# Altium footprint library lem.PCBLIB: 3 footprints
Each footprint in its own frame and in the unit in brackets; x right, y up, seen from the top. Pads: shape width x height; smd on the part's side, far side on the other; paste and mask are expansions set on the pad; w line width, h text height; cw(c..) or ccw(c..) is an arc to the next point about the centre after c.
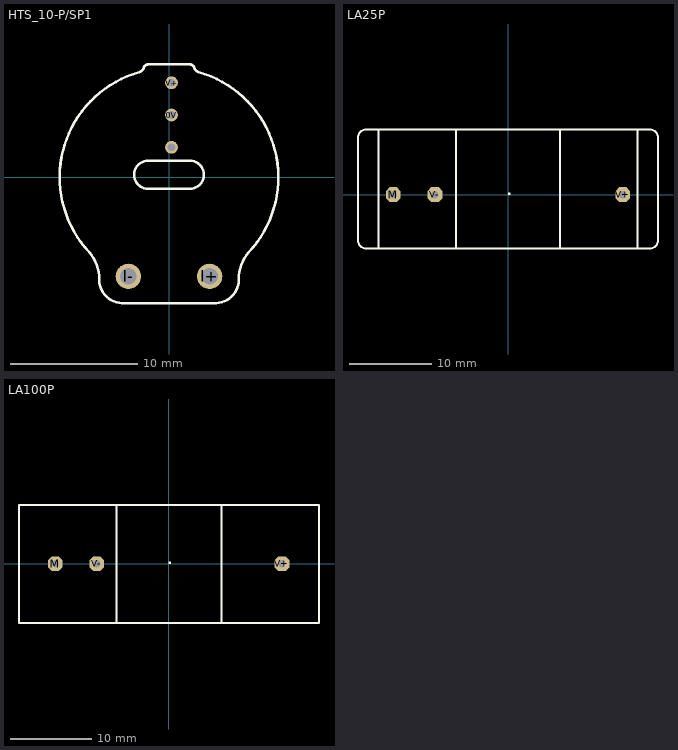
[diagram p0: the footprints below, top view; thin cyan lines are the x and y axes]

## HTS_10-P/SP1 [mm]
pads (5):
  round 1 hole 0.6: 0V(0.2,4.9) V+(0.2,7.44) VOUT(0.2,2.36)
  round 2 hole 1.3: I+(3.2,-7.8) I-(-3.2,-7.8)
Top Overlay:
  lines w0.203: -6.275,-5.9 cw(c0.001,-0.007) -2.35,8.275 ccw(c-2.484,8.77) -2,8.6 cw(c-1.577,8.451) -1.575,8.9 1.575,8.9 cw(c1.577,8.451) 2,8.6 ccw(c2.484,8.77) 2.35,8.275 cw(c-0.001,-0.007) 6.275,-5.9 ccw(c8.654,-7.972) 5.5,-8.05 cw(c3.653,-8.054) 3.7,-9.9 -3.7,-9.9 cw(c-3.653,-8.054) -5.5,-8.05 ccw(c-8.654,-7.972) -6.275,-5.9 ; -1.625,-0.9 cw(c-1.65,0.2) -1.6,1.3 1.625,1.3 cw(c1.65,0.2) 1.6,-0.9 -1.625,-0.9

## LA25P [mm]
pads (3):
  oct 1.8x1.8 hole 0.9: M(-13.97,0) V+(13.97,0) V-(-8.89,0)
Top Overlay:
  region: 0,0 0.254,0 0.254,0.254 0,0.254
  lines w0.254: -15.75,-6.566 -17.25,-6.566 cw(c-17.25,-5.566) -18.25,-5.566 -18.25,6.934 cw(c-17.25,6.934) -17.25,7.934 -15.75,7.934 ; -15.75,-6.566 -6.35,-6.566 ; -15.75,-6.566 -15.75,7.934 ; -15.75,7.934 -6.35,7.934 ; -6.35,-6.566 6.35,-6.566 ; -6.35,-6.566 -6.35,7.934 ; -6.35,7.934 6.35,7.934 ; 6.35,-6.566 15.75,-6.566 ; 6.35,-6.566 6.35,7.934 ; 6.35,7.934 15.75,7.934 ; 15.75,-6.566 17.25,-6.566 ccw(c17.25,-5.566) 18.25,-5.566 18.25,6.934 ccw(c17.25,6.934) 17.25,7.934 15.75,7.934 ; 15.75,-6.566 15.75,7.934

## LA100P [mm]
pads (3):
  oct 1.8x1.8 hole 0.9: M(-13.97,0) V+(13.97,0) V-(-8.89,0)
Top Overlay:
  region: 0,0 0.254,0 0.254,0.254 0,0.254
  lines w0.254: 6.536,-7.266 6.536,7.234 ; -6.464,-7.266 -18.464,-7.266 -18.464,7.234 -6.464,7.234 ; -6.464,-7.266 18.536,-7.266 18.536,7.234 6.536,7.234 ; -6.464,-7.266 -6.464,7.234 ; -6.464,7.234 6.536,7.234